# Altium footprint library Molex_kk.PcbLib: 3 footprints
Each footprint in its own frame and in the unit in brackets; x right, y up, seen from the top. Pads: shape width x height; smd on the part's side, far side on the other; paste and mask are expansions set on the pad; w line width, h text height; cw(c..) or ccw(c..) is an arc to the next point about the centre after c.
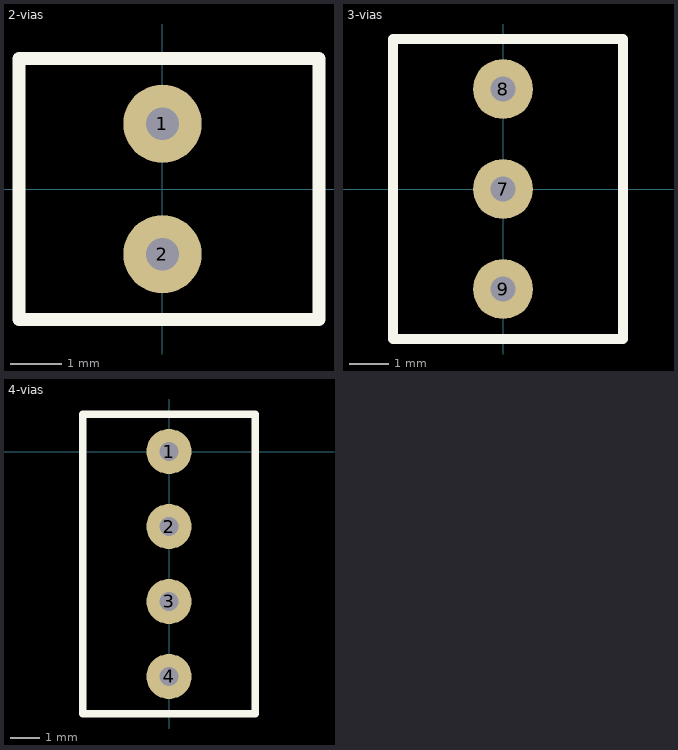
[diagram p0: the footprints below, top view; thin cyan lines are the x and y axes]

## 2-vias [mil]
pads (2):
  round 60 hole 25.2 square: 1(0,50) 2(0,-50)
Top Overlay:
  lines w10: -110,-100 110,-100 120,-100 120,100 110,100 -110,100 -110,-100
3D body "User Library-molex kk 0_1in latching 2 way vertical header.step": height 460.5, standoff -139.5, extent -113,-100 117,100

## 3-vias [mil]
pads (3):
  round 60 hole 25.2 square: 7(0,0) 8(0,100) 9(0,-100)
Top Overlay:
  lines w10: -110,-150 -110,150 110,150 120,150 120,-150 110,-150 -110,-150
3D body "User Library-molex kk 0_1in latching 3 way vertical header.step": height 460.5, standoff -139.5, extent -113,-150 117,150

## 4-vias [mil]
pads (4):
  round 60 hole 25.2 square: 1(0,0) 2(0,-100) 3(0,-200) 4(0,-300)
Top Overlay:
  lines w10: -115,-350 -115,50 -90,50 90,50 115,50 115,-350 -115,-350
3D body: height 10, standoff 0, extent 0,0 0,0
3D body "SW3dPS-molex kk 0_1in latching 4 way vertical header.STEP": height 460.5, standoff -139.5, extent -115,-350 115,50